# Altium footprint library Package_QFP.PcbLib: 99 footprints (part 5 of 7)
Each footprint in its own frame and in the unit in brackets; x right, y up, seen from the top. Pads: shape width x height; smd on the part's side, far side on the other; paste and mask are expansions set on the pad; w line width, h text height; cw(c..) or ccw(c..) is an arc to the next point about the centre after c.
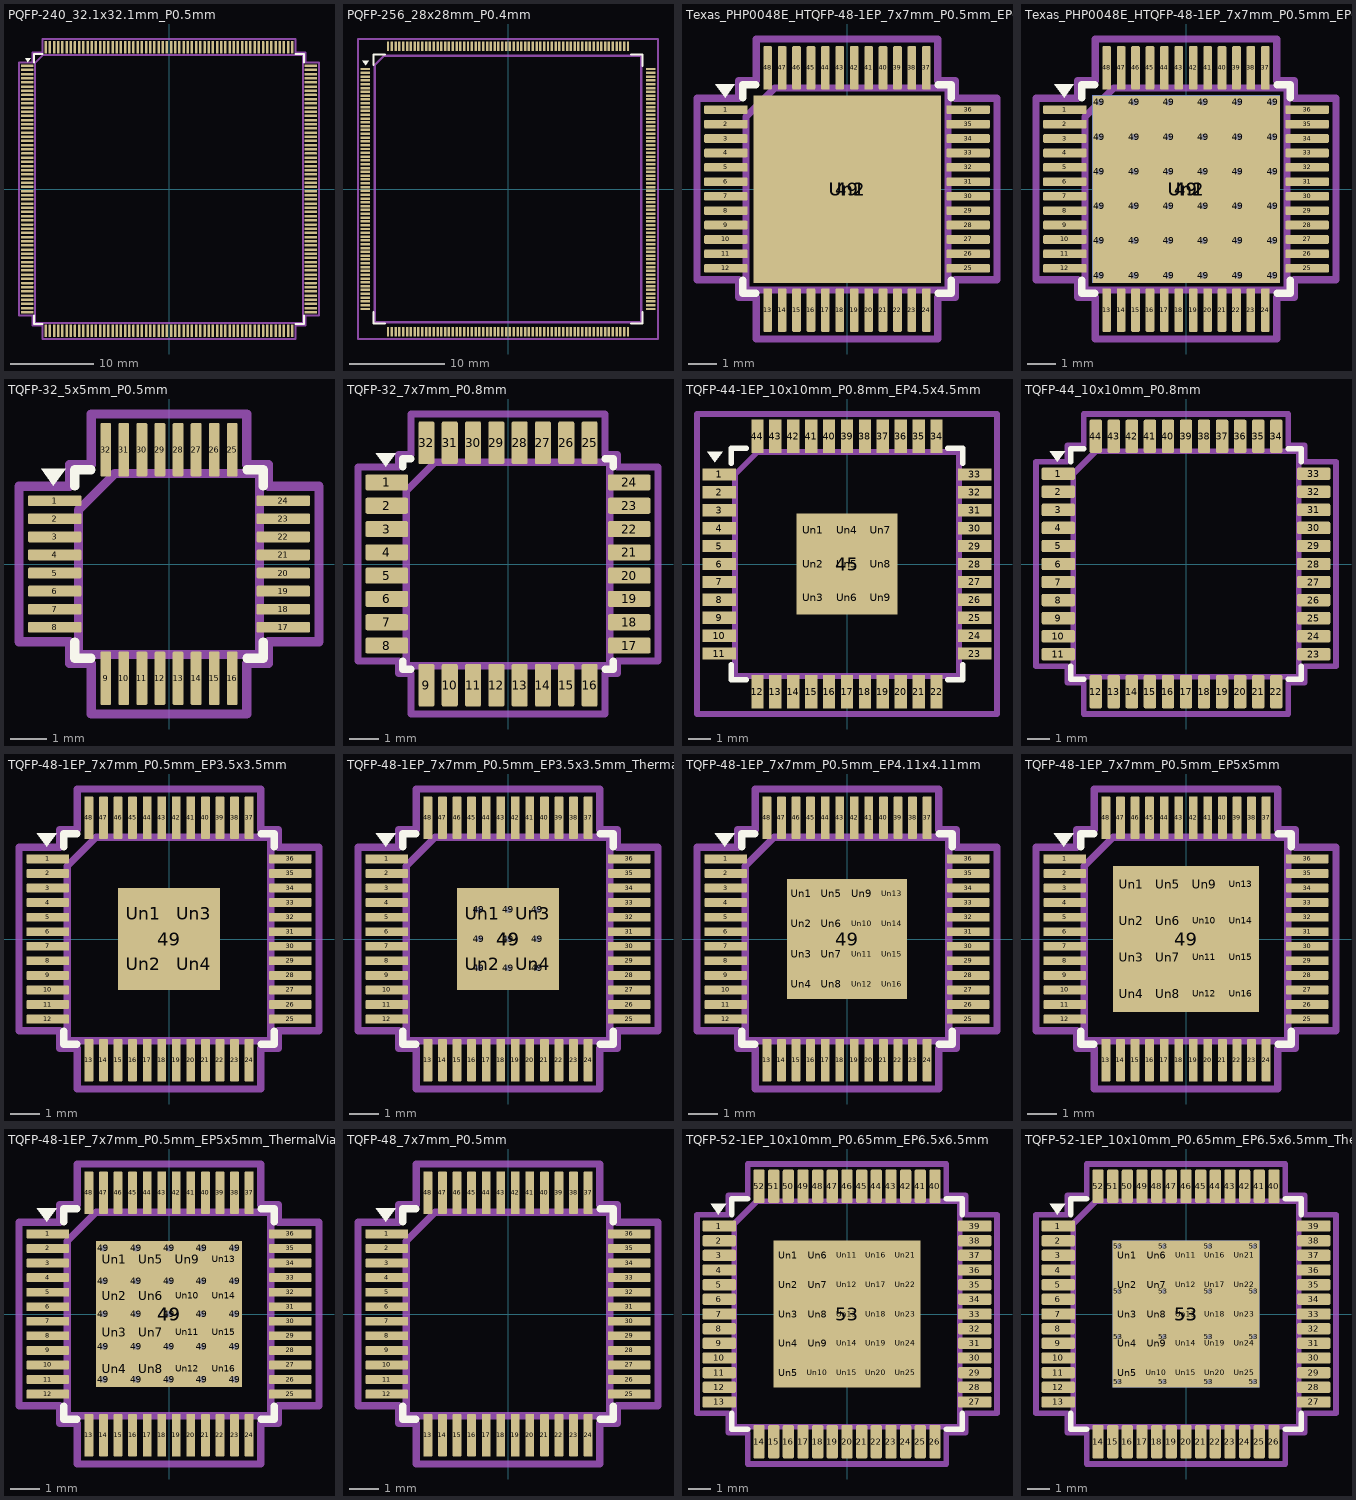
[diagram p4: the footprints below, top view; thin cyan lines are the x and y axes]

## PQFP-240_32.1x32.1mm_P0.5mm [mm]
pads (240):
  rrect25% 1.475x0.3 smd: 1(-16.963,14.75) 2(-16.963,14.25) 3(-16.963,13.75) 4(-16.963,13.25) 5(-16.963,12.75) 6(-16.963,12.25) 7(-16.963,11.75) 8(-16.963,11.25) 9(-16.963,10.75) 10(-16.963,10.25) 11(-16.963,9.75) 12(-16.963,9.25) 13(-16.963,8.75) 14(-16.963,8.25) 15(-16.963,7.75) 16(-16.963,7.25) 17(-16.963,6.75) 18(-16.963,6.25) 19(-16.963,5.75) 20(-16.963,5.25) 21(-16.963,4.75) 22(-16.963,4.25) 23(-16.963,3.75) 24(-16.963,3.25) 25(-16.963,2.75) 26(-16.963,2.25) 27(-16.963,1.75) 28(-16.963,1.25) 29(-16.963,0.75) 30(-16.963,0.25) 31(-16.963,-0.25) 32(-16.963,-0.75) 33(-16.963,-1.25) 34(-16.963,-1.75) 35(-16.963,-2.25) 36(-16.963,-2.75) 37(-16.963,-3.25) 38(-16.963,-3.75) 39(-16.963,-4.25) 40(-16.963,-4.75) 41(-16.963,-5.25) 42(-16.963,-5.75) 43(-16.963,-6.25) 44(-16.963,-6.75) 45(-16.963,-7.25) 46(-16.963,-7.75) 47(-16.963,-8.25) 48(-16.963,-8.75) 49(-16.963,-9.25) 50(-16.963,-9.75) 51(-16.963,-10.25) 52(-16.963,-10.75) 53(-16.963,-11.25) 54(-16.963,-11.75) 55(-16.963,-12.25) 56(-16.963,-12.75) 57(-16.963,-13.25) 58(-16.963,-13.75) 59(-16.963,-14.25) 60(-16.963,-14.75) 121(16.963,-14.75) 122(16.963,-14.25) 123(16.963,-13.75) 124(16.963,-13.25) 125(16.963,-12.75) 126(16.963,-12.25) 127(16.963,-11.75) 128(16.963,-11.25) 129(16.963,-10.75) 130(16.963,-10.25) 131(16.963,-9.75) 132(16.963,-9.25) 133(16.963,-8.75) 134(16.963,-8.25) 135(16.963,-7.75) 136(16.963,-7.25) 137(16.963,-6.75) 138(16.963,-6.25) 139(16.963,-5.75) 140(16.963,-5.25) 141(16.963,-4.75) 142(16.963,-4.25) 143(16.963,-3.75) 144(16.963,-3.25) 145(16.963,-2.75) 146(16.963,-2.25) 147(16.963,-1.75) 148(16.963,-1.25) 149(16.963,-0.75) 150(16.963,-0.25) 151(16.963,0.25) 152(16.963,0.75) 153(16.963,1.25) 154(16.963,1.75) 155(16.963,2.25) 156(16.963,2.75) 157(16.963,3.25) 158(16.963,3.75) 159(16.963,4.25) 160(16.963,4.75) 161(16.963,5.25) 162(16.963,5.75) 163(16.963,6.25) 164(16.963,6.75) 165(16.963,7.25) 166(16.963,7.75) 167(16.963,8.25) 168(16.963,8.75) 169(16.963,9.25) 170(16.963,9.75) 171(16.963,10.25) 172(16.963,10.75) 173(16.963,11.25) 174(16.963,11.75) 175(16.963,12.25) 176(16.963,12.75) 177(16.963,13.25) 178(16.963,13.75) 179(16.963,14.25) 180(16.963,14.75)
  rrect25% 0.3x1.475 smd: 61(-14.75,-16.963) 62(-14.25,-16.963) 63(-13.75,-16.963) 64(-13.25,-16.963) 65(-12.75,-16.963) 66(-12.25,-16.963) 67(-11.75,-16.963) 68(-11.25,-16.963) 69(-10.75,-16.963) 70(-10.25,-16.963) 71(-9.75,-16.963) 72(-9.25,-16.963) 73(-8.75,-16.963) 74(-8.25,-16.963) 75(-7.75,-16.963) 76(-7.25,-16.963) 77(-6.75,-16.963) 78(-6.25,-16.963) 79(-5.75,-16.963) 80(-5.25,-16.963) 81(-4.75,-16.963) 82(-4.25,-16.963) 83(-3.75,-16.963) 84(-3.25,-16.963) 85(-2.75,-16.963) 86(-2.25,-16.963) 87(-1.75,-16.963) 88(-1.25,-16.963) 89(-0.75,-16.963) 90(-0.25,-16.963) 91(0.25,-16.963) 92(0.75,-16.963) 93(1.25,-16.963) 94(1.75,-16.963) 95(2.25,-16.963) 96(2.75,-16.963) 97(3.25,-16.963) 98(3.75,-16.963) 99(4.25,-16.963) 100(4.75,-16.963) 101(5.25,-16.963) 102(5.75,-16.963) 103(6.25,-16.963) 104(6.75,-16.963) 105(7.25,-16.963) 106(7.75,-16.963) 107(8.25,-16.963) 108(8.75,-16.963) 109(9.25,-16.963) 110(9.75,-16.963) 111(10.25,-16.963) 112(10.75,-16.963) 113(11.25,-16.963) 114(11.75,-16.963) 115(12.25,-16.963) 116(12.75,-16.963) 117(13.25,-16.963) 118(13.75,-16.963) 119(14.25,-16.963) 120(14.75,-16.963) 181(14.75,16.963) 182(14.25,16.963) 183(13.75,16.963) 184(13.25,16.963) 185(12.75,16.963) 186(12.25,16.963) 187(11.75,16.963) 188(11.25,16.963) 189(10.75,16.963) 190(10.25,16.963) 191(9.75,16.963) 192(9.25,16.963) 193(8.75,16.963) 194(8.25,16.963) 195(7.75,16.963) 196(7.25,16.963) 197(6.75,16.963) 198(6.25,16.963) 199(5.75,16.963) 200(5.25,16.963) 201(4.75,16.963) 202(4.25,16.963) 203(3.75,16.963) 204(3.25,16.963) 205(2.75,16.963) 206(2.25,16.963) 207(1.75,16.963) 208(1.25,16.963) 209(0.75,16.963) 210(0.25,16.963) 211(-0.25,16.963) 212(-0.75,16.963) 213(-1.25,16.963) 214(-1.75,16.963) 215(-2.25,16.963) 216(-2.75,16.963) 217(-3.25,16.963) 218(-3.75,16.963) 219(-4.25,16.963) 220(-4.75,16.963) 221(-5.25,16.963) 222(-5.75,16.963) 223(-6.25,16.963) 224(-6.75,16.963) 225(-7.25,16.963) 226(-7.75,16.963) 227(-8.25,16.963) 228(-8.75,16.963) 229(-9.25,16.963) 230(-9.75,16.963) 231(-10.25,16.963) 232(-10.75,16.963) 233(-11.25,16.963) 234(-11.75,16.963) 235(-12.25,16.963) 236(-12.75,16.963) 237(-13.25,16.963) 238(-13.75,16.963) 239(-14.25,16.963) 240(-14.75,16.963)
F.SilkS:
  region: -16.875,15.16 -17.215,15.63 -16.535,15.63
  lines w0.254: -16.16,-15.16 -16.16,-16.16 -15.16,-16.16 ; -16.16,15.16 -16.16,16.16 -15.16,16.16 ; 15.16,-16.16 16.16,-16.16 16.16,-15.16 ; 15.16,16.16 16.16,16.16 16.16,15.16
Top Assembly:
  lines w0.254: -16.05,-16.05 16.05,-16.05 16.05,16.05 -15.05,16.05 -16.05,15.05 -16.05,-16.05
  text "'.Designator'" at -4.047,-0.84 h1
Top Courtyard:
  lines w0.254: -17.95,-15.15 -16.3,-15.15 -16.3,-16.3 -15.15,-16.3 -15.15,-17.95 15.15,-17.95 15.15,-16.3 16.3,-16.3 16.3,-15.15 17.95,-15.15 17.95,15.15 16.3,15.15 16.3,16.3 15.15,16.3 15.15,17.95 -15.15,17.95 -15.15,16.3 -16.3,16.3 -16.3,15.15 -17.95,15.15 -17.95,-15.15
Top Designator:
  text ".Designator" at -7.618,-0.508 h1.52

## PQFP-256_28x28mm_P0.4mm [mm]
pads (256):
  rect 1x0.26 smd: 1(-15,12.6) 2(-15,12.2) 3(-15,11.8) 4(-15,11.4) 5(-15,11) 6(-15,10.6) 7(-15,10.2) 8(-15,9.8) 9(-15,9.4) 10(-15,9) 11(-15,8.6) 12(-15,8.2) 13(-15,7.8) 14(-15,7.4) 15(-15,7) 16(-15,6.6) 17(-15,6.2) 18(-15,5.8) 19(-15,5.4) 20(-15,5) 21(-15,4.6) 22(-15,4.2) 23(-15,3.8) 24(-15,3.4) 25(-15,3) 26(-15,2.6) 27(-15,2.2) 28(-15,1.8) 29(-15,1.4) 30(-15,1) 31(-15,0.6) 32(-15,0.2) 33(-15,-0.2) 34(-15,-0.6) 35(-15,-1) 36(-15,-1.4) 37(-15,-1.8) 38(-15,-2.2) 39(-15,-2.6) 40(-15,-3) 41(-15,-3.4) 42(-15,-3.8) 43(-15,-4.2) 44(-15,-4.6) 45(-15,-5) 46(-15,-5.4) 47(-15,-5.8) 48(-15,-6.2) 49(-15,-6.6) 50(-15,-7) 51(-15,-7.4) 52(-15,-7.8) 53(-15,-8.2) 54(-15,-8.6) 55(-15,-9) 56(-15,-9.4) 57(-15,-9.8) 58(-15,-10.2) 59(-15,-10.6) 60(-15,-11) 61(-15,-11.4) 62(-15,-11.8) 63(-15,-12.2) 64(-15,-12.6) 129(15,-12.6) 130(15,-12.2) 131(15,-11.8) 132(15,-11.4) 133(15,-11) 134(15,-10.6) 135(15,-10.2) 136(15,-9.8) 137(15,-9.4) 138(15,-9) 139(15,-8.6) 140(15,-8.2) 141(15,-7.8) 142(15,-7.4) 143(15,-7) 144(15,-6.6) 145(15,-6.2) 146(15,-5.8) 147(15,-5.4) 148(15,-5) 149(15,-4.6) 150(15,-4.2) 151(15,-3.8) 152(15,-3.4) 153(15,-3) 154(15,-2.6) 155(15,-2.2) 156(15,-1.8) 157(15,-1.4) 158(15,-1) 159(15,-0.6) 160(15,-0.2) 161(15,0.2) 162(15,0.6) 163(15,1) 164(15,1.4) 165(15,1.8) 166(15,2.2) 167(15,2.6) 168(15,3) 169(15,3.4) 170(15,3.8) 171(15,4.2) 172(15,4.6) 173(15,5) 174(15,5.4) 175(15,5.8) 176(15,6.2) 177(15,6.6) 178(15,7) 179(15,7.4) 180(15,7.8) 181(15,8.2) 182(15,8.6) 183(15,9) 184(15,9.4) 185(15,9.8) 186(15,10.2) 187(15,10.6) 188(15,11) 189(15,11.4) 190(15,11.8) 191(15,12.2) 192(15,12.6)
  rect 0.26x1 smd: 65(-12.6,-15) 66(-12.2,-15) 67(-11.8,-15) 68(-11.4,-15) 69(-11,-15) 70(-10.6,-15) 71(-10.2,-15) 72(-9.8,-15) 73(-9.4,-15) 74(-9,-15) 75(-8.6,-15) 76(-8.2,-15) 77(-7.8,-15) 78(-7.4,-15) 79(-7,-15) 80(-6.6,-15) 81(-6.2,-15) 82(-5.8,-15) 83(-5.4,-15) 84(-5,-15) 85(-4.6,-15) 86(-4.2,-15) 87(-3.8,-15) 88(-3.4,-15) 89(-3,-15) 90(-2.6,-15) 91(-2.2,-15) 92(-1.8,-15) 93(-1.4,-15) 94(-1,-15) 95(-0.6,-15) 96(-0.2,-15) 97(0.2,-15) 98(0.6,-15) 99(1,-15) 100(1.4,-15) 101(1.8,-15) 102(2.2,-15) 103(2.6,-15) 104(3,-15) 105(3.4,-15) 106(3.8,-15) 107(4.2,-15) 108(4.6,-15) 109(5,-15) 110(5.4,-15) 111(5.8,-15) 112(6.2,-15) 113(6.6,-15) 114(7,-15) 115(7.4,-15) 116(7.8,-15) 117(8.2,-15) 118(8.6,-15) 119(9,-15) 120(9.4,-15) 121(9.8,-15) 122(10.2,-15) 123(10.6,-15) 124(11,-15) 125(11.4,-15) 126(11.8,-15) 127(12.2,-15) 128(12.6,-15) 193(12.6,15) 194(12.2,15) 195(11.8,15) 196(11.4,15) 197(11,15) 198(10.6,15) 199(10.2,15) 200(9.8,15) 201(9.4,15) 202(9,15) 203(8.6,15) 204(8.2,15) 205(7.8,15) 206(7.4,15) 207(7,15) 208(6.6,15) 209(6.2,15) 210(5.8,15) 211(5.4,15) 212(5,15) 213(4.6,15) 214(4.2,15) 215(3.8,15) 216(3.4,15) 217(3,15) 218(2.6,15) 219(2.2,15) 220(1.8,15) 221(1.4,15) 222(1,15) 223(0.6,15) 224(0.2,15) 225(-0.2,15) 226(-0.6,15) 227(-1,15) 228(-1.4,15) 229(-1.8,15) 230(-2.2,15) 231(-2.6,15) 232(-3,15) 233(-3.4,15) 234(-3.8,15) 235(-4.2,15) 236(-4.6,15) 237(-5,15) 238(-5.4,15) 239(-5.8,15) 240(-6.2,15) 241(-6.6,15) 242(-7,15) 243(-7.4,15) 244(-7.8,15) 245(-8.2,15) 246(-8.6,15) 247(-9,15) 248(-9.4,15) 249(-9.8,15) 250(-10.2,15) 251(-10.6,15) 252(-11,15) 253(-11.4,15) 254(-11.8,15) 255(-12.2,15) 256(-12.6,15)
F.SilkS:
  region: -14.94,12.99 -15.28,13.46 -14.6,13.46
  lines w0.254: -14.125,-12.955 -14.125,-14.125 -12.955,-14.125 ; -14.125,13.05 -14.125,14.125 -12.955,14.125 ; 12.955,-14.125 14.125,-14.125 14.125,-12.955 ; 12.955,14.125 14.125,14.125 14.125,12.955
Top Assembly:
  lines w0.254: -14,-14 14,-14 14,14 -13,14 -14,13 -14,-14
  text "'.Designator'" at -4.047,-0.84 h1
Top Courtyard:
  lines w0.254: -15.75,-15.75 15.75,-15.75 15.75,15.75 -15.75,15.75 -15.75,-15.75
Top Designator:
  text ".Designator" at -7.618,-0.508 h1.52

## Texas_PHP0048E_HTQFP-48-1EP_7x7mm_P0.5mm_EP6.5x6.5mm_Mask3.62x3.62mm [mm]
pads (51):
  rrect25% 1.5x0.3 smd: 1(-4.2,2.75) 2(-4.2,2.25) 3(-4.2,1.75) 4(-4.2,1.25) 5(-4.2,0.75) 6(-4.2,0.25) 7(-4.2,-0.25) 8(-4.2,-0.75) 9(-4.2,-1.25) 10(-4.2,-1.75) 11(-4.2,-2.25) 12(-4.2,-2.75) 25(4.2,-2.75) 26(4.2,-2.25) 27(4.2,-1.75) 28(4.2,-1.25) 29(4.2,-0.75) 30(4.2,-0.25) 31(4.2,0.25) 32(4.2,0.75) 33(4.2,1.25) 34(4.2,1.75) 35(4.2,2.25) 36(4.2,2.75)
  rrect25% 0.3x1.5 smd: 13(-2.75,-4.2) 14(-2.25,-4.2) 15(-1.75,-4.2) 16(-1.25,-4.2) 17(-0.75,-4.2) 18(-0.25,-4.2) 19(0.25,-4.2) 20(0.75,-4.2) 21(1.25,-4.2) 22(1.75,-4.2) 23(2.25,-4.2) 24(2.75,-4.2) 37(2.75,4.2) 38(2.25,4.2) 39(1.75,4.2) 40(1.25,4.2) 41(0.75,4.2) 42(0.25,4.2) 43(-0.25,4.2) 44(-0.75,4.2) 45(-1.25,4.2) 46(-1.75,4.2) 47(-2.25,4.2) 48(-2.75,4.2)
  rect 6.5x6.5 smd: 49(0,0)
  rect 3.62x3.62 on Top Solder: Un1(0,0)
  rrect7% 3.62x3.62 on Top Paste: Un2(0,0)
F.SilkS:
  region: -4.225,3.16 -4.565,3.63 -3.885,3.63
  lines w0.254: -3.61,-3.16 -3.61,-3.61 -3.16,-3.61 ; -3.61,3.16 -3.61,3.61 -3.16,3.61 ; 3.16,-3.61 3.61,-3.61 3.61,-3.16 ; 3.16,3.61 3.61,3.61 3.61,3.16
Top Assembly:
  lines w0.254: -3.5,-3.5 3.5,-3.5 3.5,3.5 -2.5,3.5 -3.5,2.5 -3.5,-3.5
  text "'.Designator'" at -4.047,-0.84 h1
Top Courtyard:
  lines w0.254: -5.2,-3.15 -3.75,-3.15 -3.75,-3.75 -3.15,-3.75 -3.15,-5.2 3.15,-5.2 3.15,-3.75 3.75,-3.75 3.75,-3.15 5.2,-3.15 5.2,3.15 3.75,3.15 3.75,3.75 3.15,3.75 3.15,5.2 -3.15,5.2 -3.15,3.75 -3.75,3.75 -3.75,3.15 -5.2,3.15 -5.2,-3.15
Top Designator:
  text ".Designator" at -7.618,-0.508 h1.52

## Texas_PHP0048E_HTQFP-48-1EP_7x7mm_P0.5mm_EP6.5x6.5mm_Mask3.62x3.62mm_ThermalVias [mm]
pads (88):
  rrect25% 1.5x0.3 smd: 1(-4.2,2.75) 2(-4.2,2.25) 3(-4.2,1.75) 4(-4.2,1.25) 5(-4.2,0.75) 6(-4.2,0.25) 7(-4.2,-0.25) 8(-4.2,-0.75) 9(-4.2,-1.25) 10(-4.2,-1.75) 11(-4.2,-2.25) 12(-4.2,-2.75) 25(4.2,-2.75) 26(4.2,-2.25) 27(4.2,-1.75) 28(4.2,-1.25) 29(4.2,-0.75) 30(4.2,-0.25) 31(4.2,0.25) 32(4.2,0.75) 33(4.2,1.25) 34(4.2,1.75) 35(4.2,2.25) 36(4.2,2.75)
  rrect25% 0.3x1.5 smd: 13(-2.75,-4.2) 14(-2.25,-4.2) 15(-1.75,-4.2) 16(-1.25,-4.2) 17(-0.75,-4.2) 18(-0.25,-4.2) 19(0.25,-4.2) 20(0.75,-4.2) 21(1.25,-4.2) 22(1.75,-4.2) 23(2.25,-4.2) 24(2.75,-4.2) 37(2.75,4.2) 38(2.25,4.2) 39(1.75,4.2) 40(1.25,4.2) 41(0.75,4.2) 42(0.25,4.2) 43(-0.25,4.2) 44(-0.75,4.2) 45(-1.25,4.2) 46(-1.75,4.2) 47(-2.25,4.2) 48(-2.75,4.2)
  round 0.5 hole 0.2: 49(-3,-3) 49(-3,-1.8) 49(-3,-0.6) 49(-3,0.6) 49(-3,1.8) 49(-3,3) 49(-1.8,-3) 49(-1.8,-1.8) 49(-1.8,-0.6) 49(-1.8,0.6) 49(-1.8,1.8) 49(-1.8,3) 49(-0.6,-3) 49(-0.6,-1.8) 49(-0.6,-0.6) 49(-0.6,0.6) 49(-0.6,1.8) 49(-0.6,3) 49(0.6,-3) 49(0.6,-1.8) 49(0.6,-0.6) 49(0.6,0.6) 49(0.6,1.8) 49(0.6,3) 49(1.8,-3) 49(1.8,-1.8) 49(1.8,-0.6) 49(1.8,0.6) 49(1.8,1.8) 49(1.8,3) 49(3,-3) 49(3,-1.8) 49(3,-0.6) 49(3,0.6) 49(3,1.8) 49(3,3)
  rect 6.5x6.5 smd: 49(0,0)
  rect 6.5x6.5 smd far side: 49(0,0)
  rect 3.62x3.62 on Top Solder: Un1(0,0)
  rrect7% 3.62x3.62 on Top Paste: Un2(0,0)
F.SilkS:
  region: -4.225,3.16 -4.565,3.63 -3.885,3.63
  lines w0.254: -3.61,-3.16 -3.61,-3.61 -3.16,-3.61 ; -3.61,3.16 -3.61,3.61 -3.16,3.61 ; 3.16,-3.61 3.61,-3.61 3.61,-3.16 ; 3.16,3.61 3.61,3.61 3.61,3.16
Top Assembly:
  lines w0.254: -3.5,-3.5 3.5,-3.5 3.5,3.5 -2.5,3.5 -3.5,2.5 -3.5,-3.5
  text "'.Designator'" at -4.047,-0.84 h1
Top Courtyard:
  lines w0.254: -5.2,-3.15 -3.75,-3.15 -3.75,-3.75 -3.15,-3.75 -3.15,-5.2 3.15,-5.2 3.15,-3.75 3.75,-3.75 3.75,-3.15 5.2,-3.15 5.2,3.15 3.75,3.15 3.75,3.75 3.15,3.75 3.15,5.2 -3.15,5.2 -3.15,3.75 -3.75,3.75 -3.75,3.15 -5.2,3.15 -5.2,-3.15
Top Designator:
  text ".Designator" at -7.618,-0.508 h1.52

## TQFP-32_5x5mm_P0.5mm [mm]
pads (32):
  rrect25% 1.475x0.3 smd: 1(-3.163,1.75) 2(-3.163,1.25) 3(-3.163,0.75) 4(-3.163,0.25) 5(-3.163,-0.25) 6(-3.163,-0.75) 7(-3.163,-1.25) 8(-3.163,-1.75) 17(3.163,-1.75) 18(3.163,-1.25) 19(3.163,-0.75) 20(3.163,-0.25) 21(3.163,0.25) 22(3.163,0.75) 23(3.163,1.25) 24(3.163,1.75)
  rrect25% 0.3x1.475 smd: 9(-1.75,-3.163) 10(-1.25,-3.163) 11(-0.75,-3.163) 12(-0.25,-3.163) 13(0.25,-3.163) 14(0.75,-3.163) 15(1.25,-3.163) 16(1.75,-3.163) 25(1.75,3.163) 26(1.25,3.163) 27(0.75,3.163) 28(0.25,3.163) 29(-0.25,3.163) 30(-0.75,3.163) 31(-1.25,3.163) 32(-1.75,3.163)
F.SilkS:
  region: -3.2,2.16 -3.54,2.63 -2.86,2.63
  lines w0.254: -2.61,-2.16 -2.61,-2.61 -2.16,-2.61 ; -2.61,2.16 -2.61,2.61 -2.16,2.61 ; 2.16,-2.61 2.61,-2.61 2.61,-2.16 ; 2.16,2.61 2.61,2.61 2.61,2.16
Top Assembly:
  lines w0.254: -2.5,-2.5 2.5,-2.5 2.5,2.5 -1.5,2.5 -2.5,1.5 -2.5,-2.5
  text "'.Designator'" at -4.047,-0.84 h1
Top Courtyard:
  lines w0.254: -4.15,-2.15 -2.75,-2.15 -2.75,-2.75 -2.15,-2.75 -2.15,-4.15 2.15,-4.15 2.15,-2.75 2.75,-2.75 2.75,-2.15 4.15,-2.15 4.15,2.15 2.75,2.15 2.75,2.75 2.15,2.75 2.15,4.15 -2.15,4.15 -2.15,2.75 -2.75,2.75 -2.75,2.15 -4.15,2.15 -4.15,-2.15
Top Designator:
  text ".Designator" at -7.618,-0.508 h1.52

## TQFP-32_7x7mm_P0.8mm [mm]
pads (32):
  rrect25% 1.475x0.55 smd: 1(-4.163,2.8) 2(-4.163,2) 3(-4.163,1.2) 4(-4.163,0.4) 5(-4.163,-0.4) 6(-4.163,-1.2) 7(-4.163,-2) 8(-4.163,-2.8) 17(4.163,-2.8) 18(4.163,-2) 19(4.163,-1.2) 20(4.163,-0.4) 21(4.163,0.4) 22(4.163,1.2) 23(4.163,2) 24(4.163,2.8)
  rrect25% 0.55x1.475 smd: 9(-2.8,-4.163) 10(-2,-4.163) 11(-1.2,-4.163) 12(-0.4,-4.163) 13(0.4,-4.163) 14(1.2,-4.163) 15(2,-4.163) 16(2.8,-4.163) 25(2.8,4.163) 26(2,4.163) 27(1.2,4.163) 28(0.4,4.163) 29(-0.4,4.163) 30(-1.2,4.163) 31(-2,4.163) 32(-2.8,4.163)
F.SilkS:
  region: -4.2,3.335 -4.54,3.805 -3.86,3.805
  lines w0.254: -3.61,-3.335 -3.61,-3.61 -3.335,-3.61 ; -3.61,3.335 -3.61,3.61 -3.335,3.61 ; 3.335,-3.61 3.61,-3.61 3.61,-3.335 ; 3.335,3.61 3.61,3.61 3.61,3.335
Top Assembly:
  lines w0.254: -3.5,-3.5 3.5,-3.5 3.5,3.5 -2.5,3.5 -3.5,2.5 -3.5,-3.5
  text "'.Designator'" at -4.047,-0.84 h1
Top Courtyard:
  lines w0.254: -5.15,-3.33 -3.75,-3.33 -3.75,-3.75 -3.33,-3.75 -3.33,-5.15 3.33,-5.15 3.33,-3.75 3.75,-3.75 3.75,-3.33 5.15,-3.33 5.15,3.33 3.75,3.33 3.75,3.75 3.33,3.75 3.33,5.15 -3.33,5.15 -3.33,3.75 -3.75,3.75 -3.75,3.33 -5.15,3.33 -5.15,-3.33
Top Designator:
  text ".Designator" at -7.618,-0.508 h1.52

## TQFP-44-1EP_10x10mm_P0.8mm_EP4.5x4.5mm [mm]
pads (54):
  rect 1.5x0.55 smd: 1(-5.7,4) 2(-5.7,3.2) 3(-5.7,2.4) 4(-5.7,1.6) 5(-5.7,0.8) 6(-5.7,0) 7(-5.7,-0.8) 8(-5.7,-1.6) 9(-5.7,-2.4) 10(-5.7,-3.2) 11(-5.7,-4) 23(5.7,-4) 24(5.7,-3.2) 25(5.7,-2.4) 26(5.7,-1.6) 27(5.7,-0.8) 28(5.7,0) 29(5.7,0.8) 30(5.7,1.6) 31(5.7,2.4) 32(5.7,3.2) 33(5.7,4)
  rect 0.55x1.5 smd: 12(-4,-5.7) 13(-3.2,-5.7) 14(-2.4,-5.7) 15(-1.6,-5.7) 16(-0.8,-5.7) 17(0,-5.7) 18(0.8,-5.7) 19(1.6,-5.7) 20(2.4,-5.7) 21(3.2,-5.7) 22(4,-5.7) 34(4,5.7) 35(3.2,5.7) 36(2.4,5.7) 37(1.6,5.7) 38(0.8,5.7) 39(0,5.7) 40(-0.8,5.7) 41(-1.6,5.7) 42(-2.4,5.7) 43(-3.2,5.7) 44(-4,5.7)
  rect 4.5x4.5 smd: 45(0,0)
  rect 1.16x1.16 on Top Paste: Un1(-1.5,1.5) Un2(-1.5,0) Un3(-1.5,-1.5) Un4(0,1.5) Un5(0,0) Un6(0,-1.5) Un7(1.5,1.5) Un8(1.5,0) Un9(1.5,-1.5)
F.SilkS:
  region: -5.9,4.54 -6.24,5.01 -5.56,5.01
  lines w0.254: -5.175,-4.5 -5.175,-5.175 -4.5,-5.175 ; -5.175,4.5 -5.175,5.175 -4.5,5.175 ; 4.5,-5.175 5.175,-5.175 5.175,-4.5 ; 4.5,5.175 5.175,5.175 5.175,4.5
Top Assembly:
  lines w0.254: -5,-5 5,-5 5,5 -4,5 -5,4 -5,-5
  text "'.Designator'" at -4.047,-0.84 h1
Top Courtyard:
  lines w0.254: -6.7,-6.7 6.7,-6.7 6.7,6.7 -6.7,6.7 -6.7,-6.7
Top Designator:
  text ".Designator" at -7.618,-0.508 h1.52

## TQFP-44_10x10mm_P0.8mm [mm]
pads (44):
  rrect25% 1.475x0.55 smd: 1(-5.663,4) 2(-5.663,3.2) 3(-5.663,2.4) 4(-5.663,1.6) 5(-5.663,0.8) 6(-5.663,0) 7(-5.663,-0.8) 8(-5.663,-1.6) 9(-5.663,-2.4) 10(-5.663,-3.2) 11(-5.663,-4) 23(5.663,-4) 24(5.663,-3.2) 25(5.663,-2.4) 26(5.663,-1.6) 27(5.663,-0.8) 28(5.663,0) 29(5.663,0.8) 30(5.663,1.6) 31(5.663,2.4) 32(5.663,3.2) 33(5.663,4)
  rrect25% 0.55x1.475 smd: 12(-4,-5.663) 13(-3.2,-5.663) 14(-2.4,-5.663) 15(-1.6,-5.663) 16(-0.8,-5.663) 17(0,-5.663) 18(0.8,-5.663) 19(1.6,-5.663) 20(2.4,-5.663) 21(3.2,-5.663) 22(4,-5.663) 34(4,5.663) 35(3.2,5.663) 36(2.4,5.663) 37(1.6,5.663) 38(0.8,5.663) 39(0,5.663) 40(-0.8,5.663) 41(-1.6,5.663) 42(-2.4,5.663) 43(-3.2,5.663) 44(-4,5.663)
F.SilkS:
  region: -5.7,4.535 -6.04,5.005 -5.36,5.005
  lines w0.254: -5.11,-4.535 -5.11,-5.11 -4.535,-5.11 ; -5.11,4.535 -5.11,5.11 -4.535,5.11 ; 4.535,-5.11 5.11,-5.11 5.11,-4.535 ; 4.535,5.11 5.11,5.11 5.11,4.535
Top Assembly:
  lines w0.254: -5,-5 5,-5 5,5 -4,5 -5,4 -5,-5
  text "'.Designator'" at -4.047,-0.84 h1
Top Courtyard:
  lines w0.254: -6.65,-4.53 -5.25,-4.53 -5.25,-5.25 -4.53,-5.25 -4.53,-6.65 4.53,-6.65 4.53,-5.25 5.25,-5.25 5.25,-4.53 6.65,-4.53 6.65,4.53 5.25,4.53 5.25,5.25 4.53,5.25 4.53,6.65 -4.53,6.65 -4.53,5.25 -5.25,5.25 -5.25,4.53 -6.65,4.53 -6.65,-4.53
Top Designator:
  text ".Designator" at -7.618,-0.508 h1.52

## TQFP-48-1EP_7x7mm_P0.5mm_EP3.5x3.5mm [mm]
pads (53):
  rrect25% 1.475x0.3 smd: 1(-4.163,2.75) 2(-4.163,2.25) 3(-4.163,1.75) 4(-4.163,1.25) 5(-4.163,0.75) 6(-4.163,0.25) 7(-4.163,-0.25) 8(-4.163,-0.75) 9(-4.163,-1.25) 10(-4.163,-1.75) 11(-4.163,-2.25) 12(-4.163,-2.75) 25(4.163,-2.75) 26(4.163,-2.25) 27(4.163,-1.75) 28(4.163,-1.25) 29(4.163,-0.75) 30(4.163,-0.25) 31(4.163,0.25) 32(4.163,0.75) 33(4.163,1.25) 34(4.163,1.75) 35(4.163,2.25) 36(4.163,2.75)
  rrect25% 0.3x1.475 smd: 13(-2.75,-4.163) 14(-2.25,-4.163) 15(-1.75,-4.163) 16(-1.25,-4.163) 17(-0.75,-4.163) 18(-0.25,-4.163) 19(0.25,-4.163) 20(0.75,-4.163) 21(1.25,-4.163) 22(1.75,-4.163) 23(2.25,-4.163) 24(2.75,-4.163) 37(2.75,4.163) 38(2.25,4.163) 39(1.75,4.163) 40(1.25,4.163) 41(0.75,4.163) 42(0.25,4.163) 43(-0.25,4.163) 44(-0.75,4.163) 45(-1.25,4.163) 46(-1.75,4.163) 47(-2.25,4.163) 48(-2.75,4.163)
  rect 3.5x3.5 smd: 49(0,0)
  rrect18% 1.41x1.41 on Top Paste: Un1(-0.875,0.875) Un2(-0.875,-0.875) Un3(0.875,0.875) Un4(0.875,-0.875)
F.SilkS:
  region: -4.2,3.16 -4.54,3.63 -3.86,3.63
  lines w0.254: -3.61,-3.16 -3.61,-3.61 -3.16,-3.61 ; -3.61,3.16 -3.61,3.61 -3.16,3.61 ; 3.16,-3.61 3.61,-3.61 3.61,-3.16 ; 3.16,3.61 3.61,3.61 3.61,3.16
Top Assembly:
  lines w0.254: -3.5,-3.5 3.5,-3.5 3.5,3.5 -2.5,3.5 -3.5,2.5 -3.5,-3.5
  text "'.Designator'" at -4.047,-0.84 h1
Top Courtyard:
  lines w0.254: -5.15,-3.15 -3.75,-3.15 -3.75,-3.75 -3.15,-3.75 -3.15,-5.15 3.15,-5.15 3.15,-3.75 3.75,-3.75 3.75,-3.15 5.15,-3.15 5.15,3.15 3.75,3.15 3.75,3.75 3.15,3.75 3.15,5.15 -3.15,5.15 -3.15,3.75 -3.75,3.75 -3.75,3.15 -5.15,3.15 -5.15,-3.15
Top Designator:
  text ".Designator" at -7.618,-0.508 h1.52

## TQFP-48-1EP_7x7mm_P0.5mm_EP3.5x3.5mm_ThermalVias [mm]
pads (63):
  rrect25% 1.475x0.3 smd: 1(-4.163,2.75) 2(-4.163,2.25) 3(-4.163,1.75) 4(-4.163,1.25) 5(-4.163,0.75) 6(-4.163,0.25) 7(-4.163,-0.25) 8(-4.163,-0.75) 9(-4.163,-1.25) 10(-4.163,-1.75) 11(-4.163,-2.25) 12(-4.163,-2.75) 25(4.163,-2.75) 26(4.163,-2.25) 27(4.163,-1.75) 28(4.163,-1.25) 29(4.163,-0.75) 30(4.163,-0.25) 31(4.163,0.25) 32(4.163,0.75) 33(4.163,1.25) 34(4.163,1.75) 35(4.163,2.25) 36(4.163,2.75)
  rrect25% 0.3x1.475 smd: 13(-2.75,-4.163) 14(-2.25,-4.163) 15(-1.75,-4.163) 16(-1.25,-4.163) 17(-0.75,-4.163) 18(-0.25,-4.163) 19(0.25,-4.163) 20(0.75,-4.163) 21(1.25,-4.163) 22(1.75,-4.163) 23(2.25,-4.163) 24(2.75,-4.163) 37(2.75,4.163) 38(2.25,4.163) 39(1.75,4.163) 40(1.25,4.163) 41(0.75,4.163) 42(0.25,4.163) 43(-0.25,4.163) 44(-0.75,4.163) 45(-1.25,4.163) 46(-1.75,4.163) 47(-2.25,4.163) 48(-2.75,4.163)
  round 0.5 hole 0.2: 49(-1,-1) 49(-1,0) 49(-1,1) 49(0,-1) 49(0,0) 49(0,1) 49(1,-1) 49(1,0) 49(1,1)
  rect 3.5x3.5 smd: 49(0,0)
  rect 2.5x2.5 smd far side: 49(0,0)
  rrect18% 1.41x1.41 on Top Paste: Un1(-0.875,0.875) Un2(-0.875,-0.875) Un3(0.875,0.875) Un4(0.875,-0.875)
F.SilkS:
  region: -4.2,3.16 -4.54,3.63 -3.86,3.63
  lines w0.254: -3.61,-3.16 -3.61,-3.61 -3.16,-3.61 ; -3.61,3.16 -3.61,3.61 -3.16,3.61 ; 3.16,-3.61 3.61,-3.61 3.61,-3.16 ; 3.16,3.61 3.61,3.61 3.61,3.16
Top Assembly:
  lines w0.254: -3.5,-3.5 3.5,-3.5 3.5,3.5 -2.5,3.5 -3.5,2.5 -3.5,-3.5
  text "'.Designator'" at -4.047,-0.84 h1
Top Courtyard:
  lines w0.254: -5.15,-3.15 -3.75,-3.15 -3.75,-3.75 -3.15,-3.75 -3.15,-5.15 3.15,-5.15 3.15,-3.75 3.75,-3.75 3.75,-3.15 5.15,-3.15 5.15,3.15 3.75,3.15 3.75,3.75 3.15,3.75 3.15,5.15 -3.15,5.15 -3.15,3.75 -3.75,3.75 -3.75,3.15 -5.15,3.15 -5.15,-3.15
Top Designator:
  text ".Designator" at -7.618,-0.508 h1.52

## TQFP-48-1EP_7x7mm_P0.5mm_EP4.11x4.11mm [mm]
pads (65):
  rrect25% 1.475x0.3 smd: 1(-4.163,2.75) 2(-4.163,2.25) 3(-4.163,1.75) 4(-4.163,1.25) 5(-4.163,0.75) 6(-4.163,0.25) 7(-4.163,-0.25) 8(-4.163,-0.75) 9(-4.163,-1.25) 10(-4.163,-1.75) 11(-4.163,-2.25) 12(-4.163,-2.75) 25(4.163,-2.75) 26(4.163,-2.25) 27(4.163,-1.75) 28(4.163,-1.25) 29(4.163,-0.75) 30(4.163,-0.25) 31(4.163,0.25) 32(4.163,0.75) 33(4.163,1.25) 34(4.163,1.75) 35(4.163,2.25) 36(4.163,2.75)
  rrect25% 0.3x1.475 smd: 13(-2.75,-4.163) 14(-2.25,-4.163) 15(-1.75,-4.163) 16(-1.25,-4.163) 17(-0.75,-4.163) 18(-0.25,-4.163) 19(0.25,-4.163) 20(0.75,-4.163) 21(1.25,-4.163) 22(1.75,-4.163) 23(2.25,-4.163) 24(2.75,-4.163) 37(2.75,4.163) 38(2.25,4.163) 39(1.75,4.163) 40(1.25,4.163) 41(0.75,4.163) 42(0.25,4.163) 43(-0.25,4.163) 44(-0.75,4.163) 45(-1.25,4.163) 46(-1.75,4.163) 47(-2.25,4.163) 48(-2.75,4.163)
  rect 4.11x4.11 smd: 49(0,0)
  rrect25% 0.83x0.83 on Top Paste: Un1(-1.545,1.545) Un2(-1.545,0.515) Un3(-1.545,-0.515) Un4(-1.545,-1.545) Un5(-0.515,1.545) Un6(-0.515,0.515) Un7(-0.515,-0.515) Un8(-0.515,-1.545) Un9(0.515,1.545) Un10(0.515,0.515) Un11(0.515,-0.515) Un12(0.515,-1.545) Un13(1.545,1.545) Un14(1.545,0.515) Un15(1.545,-0.515) Un16(1.545,-1.545)
F.SilkS:
  region: -4.2,3.16 -4.54,3.63 -3.86,3.63
  lines w0.254: -3.61,-3.16 -3.61,-3.61 -3.16,-3.61 ; -3.61,3.16 -3.61,3.61 -3.16,3.61 ; 3.16,-3.61 3.61,-3.61 3.61,-3.16 ; 3.16,3.61 3.61,3.61 3.61,3.16
Top Assembly:
  lines w0.254: -3.5,-3.5 3.5,-3.5 3.5,3.5 -2.5,3.5 -3.5,2.5 -3.5,-3.5
  text "'.Designator'" at -4.047,-0.84 h1
Top Courtyard:
  lines w0.254: -5.15,-3.15 -3.75,-3.15 -3.75,-3.75 -3.15,-3.75 -3.15,-5.15 3.15,-5.15 3.15,-3.75 3.75,-3.75 3.75,-3.15 5.15,-3.15 5.15,3.15 3.75,3.15 3.75,3.75 3.15,3.75 3.15,5.15 -3.15,5.15 -3.15,3.75 -3.75,3.75 -3.75,3.15 -5.15,3.15 -5.15,-3.15
Top Designator:
  text ".Designator" at -7.618,-0.508 h1.52

## TQFP-48-1EP_7x7mm_P0.5mm_EP5x5mm [mm]
pads (65):
  rrect25% 1.475x0.3 smd: 1(-4.163,2.75) 2(-4.163,2.25) 3(-4.163,1.75) 4(-4.163,1.25) 5(-4.163,0.75) 6(-4.163,0.25) 7(-4.163,-0.25) 8(-4.163,-0.75) 9(-4.163,-1.25) 10(-4.163,-1.75) 11(-4.163,-2.25) 12(-4.163,-2.75) 25(4.163,-2.75) 26(4.163,-2.25) 27(4.163,-1.75) 28(4.163,-1.25) 29(4.163,-0.75) 30(4.163,-0.25) 31(4.163,0.25) 32(4.163,0.75) 33(4.163,1.25) 34(4.163,1.75) 35(4.163,2.25) 36(4.163,2.75)
  rrect25% 0.3x1.475 smd: 13(-2.75,-4.163) 14(-2.25,-4.163) 15(-1.75,-4.163) 16(-1.25,-4.163) 17(-0.75,-4.163) 18(-0.25,-4.163) 19(0.25,-4.163) 20(0.75,-4.163) 21(1.25,-4.163) 22(1.75,-4.163) 23(2.25,-4.163) 24(2.75,-4.163) 37(2.75,4.163) 38(2.25,4.163) 39(1.75,4.163) 40(1.25,4.163) 41(0.75,4.163) 42(0.25,4.163) 43(-0.25,4.163) 44(-0.75,4.163) 45(-1.25,4.163) 46(-1.75,4.163) 47(-2.25,4.163) 48(-2.75,4.163)
  rect 5x5 smd: 49(0,0)
  rrect25% 1.01x1.01 on Top Paste: Un1(-1.875,1.875) Un2(-1.875,0.625) Un3(-1.875,-0.625) Un4(-1.875,-1.875) Un5(-0.625,1.875) Un6(-0.625,0.625) Un7(-0.625,-0.625) Un8(-0.625,-1.875) Un9(0.625,1.875) Un10(0.625,0.625) Un11(0.625,-0.625) Un12(0.625,-1.875) Un13(1.875,1.875) Un14(1.875,0.625) Un15(1.875,-0.625) Un16(1.875,-1.875)
F.SilkS:
  region: -4.2,3.16 -4.54,3.63 -3.86,3.63
  lines w0.254: -3.61,-3.16 -3.61,-3.61 -3.16,-3.61 ; -3.61,3.16 -3.61,3.61 -3.16,3.61 ; 3.16,-3.61 3.61,-3.61 3.61,-3.16 ; 3.16,3.61 3.61,3.61 3.61,3.16
Top Assembly:
  lines w0.254: -3.5,-3.5 3.5,-3.5 3.5,3.5 -2.5,3.5 -3.5,2.5 -3.5,-3.5
  text "'.Designator'" at -4.047,-0.84 h1
Top Courtyard:
  lines w0.254: -5.15,-3.15 -3.75,-3.15 -3.75,-3.75 -3.15,-3.75 -3.15,-5.15 3.15,-5.15 3.15,-3.75 3.75,-3.75 3.75,-3.15 5.15,-3.15 5.15,3.15 3.75,3.15 3.75,3.75 3.15,3.75 3.15,5.15 -3.15,5.15 -3.15,3.75 -3.75,3.75 -3.75,3.15 -5.15,3.15 -5.15,-3.15
Top Designator:
  text ".Designator" at -7.618,-0.508 h1.52

## TQFP-48-1EP_7x7mm_P0.5mm_EP5x5mm_ThermalVias [mm]
pads (91):
  rrect25% 1.475x0.3 smd: 1(-4.163,2.75) 2(-4.163,2.25) 3(-4.163,1.75) 4(-4.163,1.25) 5(-4.163,0.75) 6(-4.163,0.25) 7(-4.163,-0.25) 8(-4.163,-0.75) 9(-4.163,-1.25) 10(-4.163,-1.75) 11(-4.163,-2.25) 12(-4.163,-2.75) 25(4.163,-2.75) 26(4.163,-2.25) 27(4.163,-1.75) 28(4.163,-1.25) 29(4.163,-0.75) 30(4.163,-0.25) 31(4.163,0.25) 32(4.163,0.75) 33(4.163,1.25) 34(4.163,1.75) 35(4.163,2.25) 36(4.163,2.75)
  rrect25% 0.3x1.475 smd: 13(-2.75,-4.163) 14(-2.25,-4.163) 15(-1.75,-4.163) 16(-1.25,-4.163) 17(-0.75,-4.163) 18(-0.25,-4.163) 19(0.25,-4.163) 20(0.75,-4.163) 21(1.25,-4.163) 22(1.75,-4.163) 23(2.25,-4.163) 24(2.75,-4.163) 37(2.75,4.163) 38(2.25,4.163) 39(1.75,4.163) 40(1.25,4.163) 41(0.75,4.163) 42(0.25,4.163) 43(-0.25,4.163) 44(-0.75,4.163) 45(-1.25,4.163) 46(-1.75,4.163) 47(-2.25,4.163) 48(-2.75,4.163)
  round 0.5 hole 0.2: 49(-2.25,-2.25) 49(-2.25,-1.125) 49(-2.25,0) 49(-2.25,1.125) 49(-2.25,2.25) 49(-1.125,-2.25) 49(-1.125,-1.125) 49(-1.125,0) 49(-1.125,1.125) 49(-1.125,2.25) 49(0,-2.25) 49(0,-1.125) 49(0,0) 49(0,1.125) 49(0,2.25) 49(1.125,-2.25) 49(1.125,-1.125) 49(1.125,0) 49(1.125,1.125) 49(1.125,2.25) 49(2.25,-2.25) 49(2.25,-1.125) 49(2.25,0) 49(2.25,1.125) 49(2.25,2.25)
  rect 5x5 smd: 49(0,0)
  rect 5x5 smd far side: 49(0,0)
  rrect25% 1.01x1.01 on Top Paste: Un1(-1.875,1.875) Un2(-1.875,0.625) Un3(-1.875,-0.625) Un4(-1.875,-1.875) Un5(-0.625,1.875) Un6(-0.625,0.625) Un7(-0.625,-0.625) Un8(-0.625,-1.875) Un9(0.625,1.875) Un10(0.625,0.625) Un11(0.625,-0.625) Un12(0.625,-1.875) Un13(1.875,1.875) Un14(1.875,0.625) Un15(1.875,-0.625) Un16(1.875,-1.875)
F.SilkS:
  region: -4.2,3.16 -4.54,3.63 -3.86,3.63
  lines w0.254: -3.61,-3.16 -3.61,-3.61 -3.16,-3.61 ; -3.61,3.16 -3.61,3.61 -3.16,3.61 ; 3.16,-3.61 3.61,-3.61 3.61,-3.16 ; 3.16,3.61 3.61,3.61 3.61,3.16
Top Assembly:
  lines w0.254: -3.5,-3.5 3.5,-3.5 3.5,3.5 -2.5,3.5 -3.5,2.5 -3.5,-3.5
  text "'.Designator'" at -4.047,-0.84 h1
Top Courtyard:
  lines w0.254: -5.15,-3.15 -3.75,-3.15 -3.75,-3.75 -3.15,-3.75 -3.15,-5.15 3.15,-5.15 3.15,-3.75 3.75,-3.75 3.75,-3.15 5.15,-3.15 5.15,3.15 3.75,3.15 3.75,3.75 3.15,3.75 3.15,5.15 -3.15,5.15 -3.15,3.75 -3.75,3.75 -3.75,3.15 -5.15,3.15 -5.15,-3.15
Top Designator:
  text ".Designator" at -7.618,-0.508 h1.52

## TQFP-48_7x7mm_P0.5mm [mm]
pads (48):
  rrect25% 1.475x0.3 smd: 1(-4.163,2.75) 2(-4.163,2.25) 3(-4.163,1.75) 4(-4.163,1.25) 5(-4.163,0.75) 6(-4.163,0.25) 7(-4.163,-0.25) 8(-4.163,-0.75) 9(-4.163,-1.25) 10(-4.163,-1.75) 11(-4.163,-2.25) 12(-4.163,-2.75) 25(4.163,-2.75) 26(4.163,-2.25) 27(4.163,-1.75) 28(4.163,-1.25) 29(4.163,-0.75) 30(4.163,-0.25) 31(4.163,0.25) 32(4.163,0.75) 33(4.163,1.25) 34(4.163,1.75) 35(4.163,2.25) 36(4.163,2.75)
  rrect25% 0.3x1.475 smd: 13(-2.75,-4.163) 14(-2.25,-4.163) 15(-1.75,-4.163) 16(-1.25,-4.163) 17(-0.75,-4.163) 18(-0.25,-4.163) 19(0.25,-4.163) 20(0.75,-4.163) 21(1.25,-4.163) 22(1.75,-4.163) 23(2.25,-4.163) 24(2.75,-4.163) 37(2.75,4.163) 38(2.25,4.163) 39(1.75,4.163) 40(1.25,4.163) 41(0.75,4.163) 42(0.25,4.163) 43(-0.25,4.163) 44(-0.75,4.163) 45(-1.25,4.163) 46(-1.75,4.163) 47(-2.25,4.163) 48(-2.75,4.163)
F.SilkS:
  region: -4.2,3.16 -4.54,3.63 -3.86,3.63
  lines w0.254: -3.61,-3.16 -3.61,-3.61 -3.16,-3.61 ; -3.61,3.16 -3.61,3.61 -3.16,3.61 ; 3.16,-3.61 3.61,-3.61 3.61,-3.16 ; 3.16,3.61 3.61,3.61 3.61,3.16
Top Assembly:
  lines w0.254: -3.5,-3.5 3.5,-3.5 3.5,3.5 -2.5,3.5 -3.5,2.5 -3.5,-3.5
  text "'.Designator'" at -4.047,-0.84 h1
Top Courtyard:
  lines w0.254: -5.15,-3.15 -3.75,-3.15 -3.75,-3.75 -3.15,-3.75 -3.15,-5.15 3.15,-5.15 3.15,-3.75 3.75,-3.75 3.75,-3.15 5.15,-3.15 5.15,3.15 3.75,3.15 3.75,3.75 3.15,3.75 3.15,5.15 -3.15,5.15 -3.15,3.75 -3.75,3.75 -3.75,3.15 -5.15,3.15 -5.15,-3.15
Top Designator:
  text ".Designator" at -7.618,-0.508 h1.52

## TQFP-52-1EP_10x10mm_P0.65mm_EP6.5x6.5mm [mm]
pads (78):
  rrect25% 1.475x0.5 smd: 1(-5.663,3.9) 2(-5.663,3.25) 3(-5.663,2.6) 4(-5.663,1.95) 5(-5.663,1.3) 6(-5.663,0.65) 7(-5.663,0) 8(-5.663,-0.65) 9(-5.663,-1.3) 10(-5.663,-1.95) 11(-5.663,-2.6) 12(-5.663,-3.25) 13(-5.663,-3.9) 27(5.663,-3.9) 28(5.663,-3.25) 29(5.663,-2.6) 30(5.663,-1.95) 31(5.663,-1.3) 32(5.663,-0.65) 33(5.663,0) 34(5.663,0.65) 35(5.663,1.3) 36(5.663,1.95) 37(5.663,2.6) 38(5.663,3.25) 39(5.663,3.9)
  rrect25% 0.5x1.475 smd: 14(-3.9,-5.663) 15(-3.25,-5.663) 16(-2.6,-5.663) 17(-1.95,-5.663) 18(-1.3,-5.663) 19(-0.65,-5.663) 20(0,-5.663) 21(0.65,-5.663) 22(1.3,-5.663) 23(1.95,-5.663) 24(2.6,-5.663) 25(3.25,-5.663) 26(3.9,-5.663) 40(3.9,5.663) 41(3.25,5.663) 42(2.6,5.663) 43(1.95,5.663) 44(1.3,5.663) 45(0.65,5.663) 46(0,5.663) 47(-0.65,5.663) 48(-1.3,5.663) 49(-1.95,5.663) 50(-2.6,5.663) 51(-3.25,5.663) 52(-3.9,5.663)
  rect 6.5x6.5 smd: 53(0,0)
  rrect24% 1.05x1.05 on Top Paste: Un1(-2.6,2.6) Un2(-2.6,1.3) Un3(-2.6,0) Un4(-2.6,-1.3) Un5(-2.6,-2.6) Un6(-1.3,2.6) Un7(-1.3,1.3) Un8(-1.3,0) Un9(-1.3,-1.3) Un10(-1.3,-2.6) Un11(0,2.6) Un12(0,1.3) Un13(0,0) Un14(0,-1.3) Un15(0,-2.6) Un16(1.3,2.6) Un17(1.3,1.3) Un18(1.3,0) Un19(1.3,-1.3) Un20(1.3,-2.6) Un21(2.6,2.6) Un22(2.6,1.3) Un23(2.6,0) Un24(2.6,-1.3) Un25(2.6,-2.6)
F.SilkS:
  region: -5.7,4.41 -6.04,4.88 -5.36,4.88
  lines w0.254: -5.11,-4.41 -5.11,-5.11 -4.41,-5.11 ; -5.11,4.41 -5.11,5.11 -4.41,5.11 ; 4.41,-5.11 5.11,-5.11 5.11,-4.41 ; 4.41,5.11 5.11,5.11 5.11,4.41
Top Assembly:
  lines w0.254: -5,-5 5,-5 5,5 -4,5 -5,4 -5,-5
  text "'.Designator'" at -4.047,-0.84 h1
Top Courtyard:
  lines w0.254: -6.65,-4.4 -5.25,-4.4 -5.25,-5.25 -4.4,-5.25 -4.4,-6.65 4.4,-6.65 4.4,-5.25 5.25,-5.25 5.25,-4.4 6.65,-4.4 6.65,4.4 5.25,4.4 5.25,5.25 4.4,5.25 4.4,6.65 -4.4,6.65 -4.4,5.25 -5.25,5.25 -5.25,4.4 -6.65,4.4 -6.65,-4.4
Top Designator:
  text ".Designator" at -7.618,-0.508 h1.52

## TQFP-52-1EP_10x10mm_P0.65mm_EP6.5x6.5mm_ThermalVias [mm]
pads (95):
  rrect25% 1.475x0.5 smd: 1(-5.663,3.9) 2(-5.663,3.25) 3(-5.663,2.6) 4(-5.663,1.95) 5(-5.663,1.3) 6(-5.663,0.65) 7(-5.663,0) 8(-5.663,-0.65) 9(-5.663,-1.3) 10(-5.663,-1.95) 11(-5.663,-2.6) 12(-5.663,-3.25) 13(-5.663,-3.9) 27(5.663,-3.9) 28(5.663,-3.25) 29(5.663,-2.6) 30(5.663,-1.95) 31(5.663,-1.3) 32(5.663,-0.65) 33(5.663,0) 34(5.663,0.65) 35(5.663,1.3) 36(5.663,1.95) 37(5.663,2.6) 38(5.663,3.25) 39(5.663,3.9)
  rrect25% 0.5x1.475 smd: 14(-3.9,-5.663) 15(-3.25,-5.663) 16(-2.6,-5.663) 17(-1.95,-5.663) 18(-1.3,-5.663) 19(-0.65,-5.663) 20(0,-5.663) 21(0.65,-5.663) 22(1.3,-5.663) 23(1.95,-5.663) 24(2.6,-5.663) 25(3.25,-5.663) 26(3.9,-5.663) 40(3.9,5.663) 41(3.25,5.663) 42(2.6,5.663) 43(1.95,5.663) 44(1.3,5.663) 45(0.65,5.663) 46(0,5.663) 47(-0.65,5.663) 48(-1.3,5.663) 49(-1.95,5.663) 50(-2.6,5.663) 51(-3.25,5.663) 52(-3.9,5.663)
  round 0.5 hole 0.2: 53(-3,-3) 53(-3,-1) 53(-3,1) 53(-3,3) 53(-1,-3) 53(-1,-1) 53(-1,1) 53(-1,3) 53(1,-3) 53(1,-1) 53(1,1) 53(1,3) 53(3,-3) 53(3,-1) 53(3,1) 53(3,3)
  rect 6.5x6.5 smd: 53(0,0)
  rect 6.5x6.5 smd far side: 53(0,0)
  rrect24% 1.05x1.05 on Top Paste: Un1(-2.6,2.6) Un2(-2.6,1.3) Un3(-2.6,0) Un4(-2.6,-1.3) Un5(-2.6,-2.6) Un6(-1.3,2.6) Un7(-1.3,1.3) Un8(-1.3,0) Un9(-1.3,-1.3) Un10(-1.3,-2.6) Un11(0,2.6) Un12(0,1.3) Un13(0,0) Un14(0,-1.3) Un15(0,-2.6) Un16(1.3,2.6) Un17(1.3,1.3) Un18(1.3,0) Un19(1.3,-1.3) Un20(1.3,-2.6) Un21(2.6,2.6) Un22(2.6,1.3) Un23(2.6,0) Un24(2.6,-1.3) Un25(2.6,-2.6)
F.SilkS:
  region: -5.7,4.41 -6.04,4.88 -5.36,4.88
  lines w0.254: -5.11,-4.41 -5.11,-5.11 -4.41,-5.11 ; -5.11,4.41 -5.11,5.11 -4.41,5.11 ; 4.41,-5.11 5.11,-5.11 5.11,-4.41 ; 4.41,5.11 5.11,5.11 5.11,4.41
Top Assembly:
  lines w0.254: -5,-5 5,-5 5,5 -4,5 -5,4 -5,-5
  text "'.Designator'" at -4.047,-0.84 h1
Top Courtyard:
  lines w0.254: -6.65,-4.4 -5.25,-4.4 -5.25,-5.25 -4.4,-5.25 -4.4,-6.65 4.4,-6.65 4.4,-5.25 5.25,-5.25 5.25,-4.4 6.65,-4.4 6.65,4.4 5.25,4.4 5.25,5.25 4.4,5.25 4.4,6.65 -4.4,6.65 -4.4,5.25 -5.25,5.25 -5.25,4.4 -6.65,4.4 -6.65,-4.4
Top Designator:
  text ".Designator" at -7.618,-0.508 h1.52